# Altium footprint library 高通MSM8916 原理图+PCB Layout_QRD8916_2-4-2_half type_main board_V1.01.PcbLib: 113 footprints (part 7 of 8)
Each footprint in its own frame and in the unit in brackets; x right, y up, seen from the top. Pads: shape width x height; smd on the part's side, far side on the other; paste and mask are expansions set on the pad; w line width, h text height; cw(c..) or ccw(c..) is an arc to the next point about the centre after c.
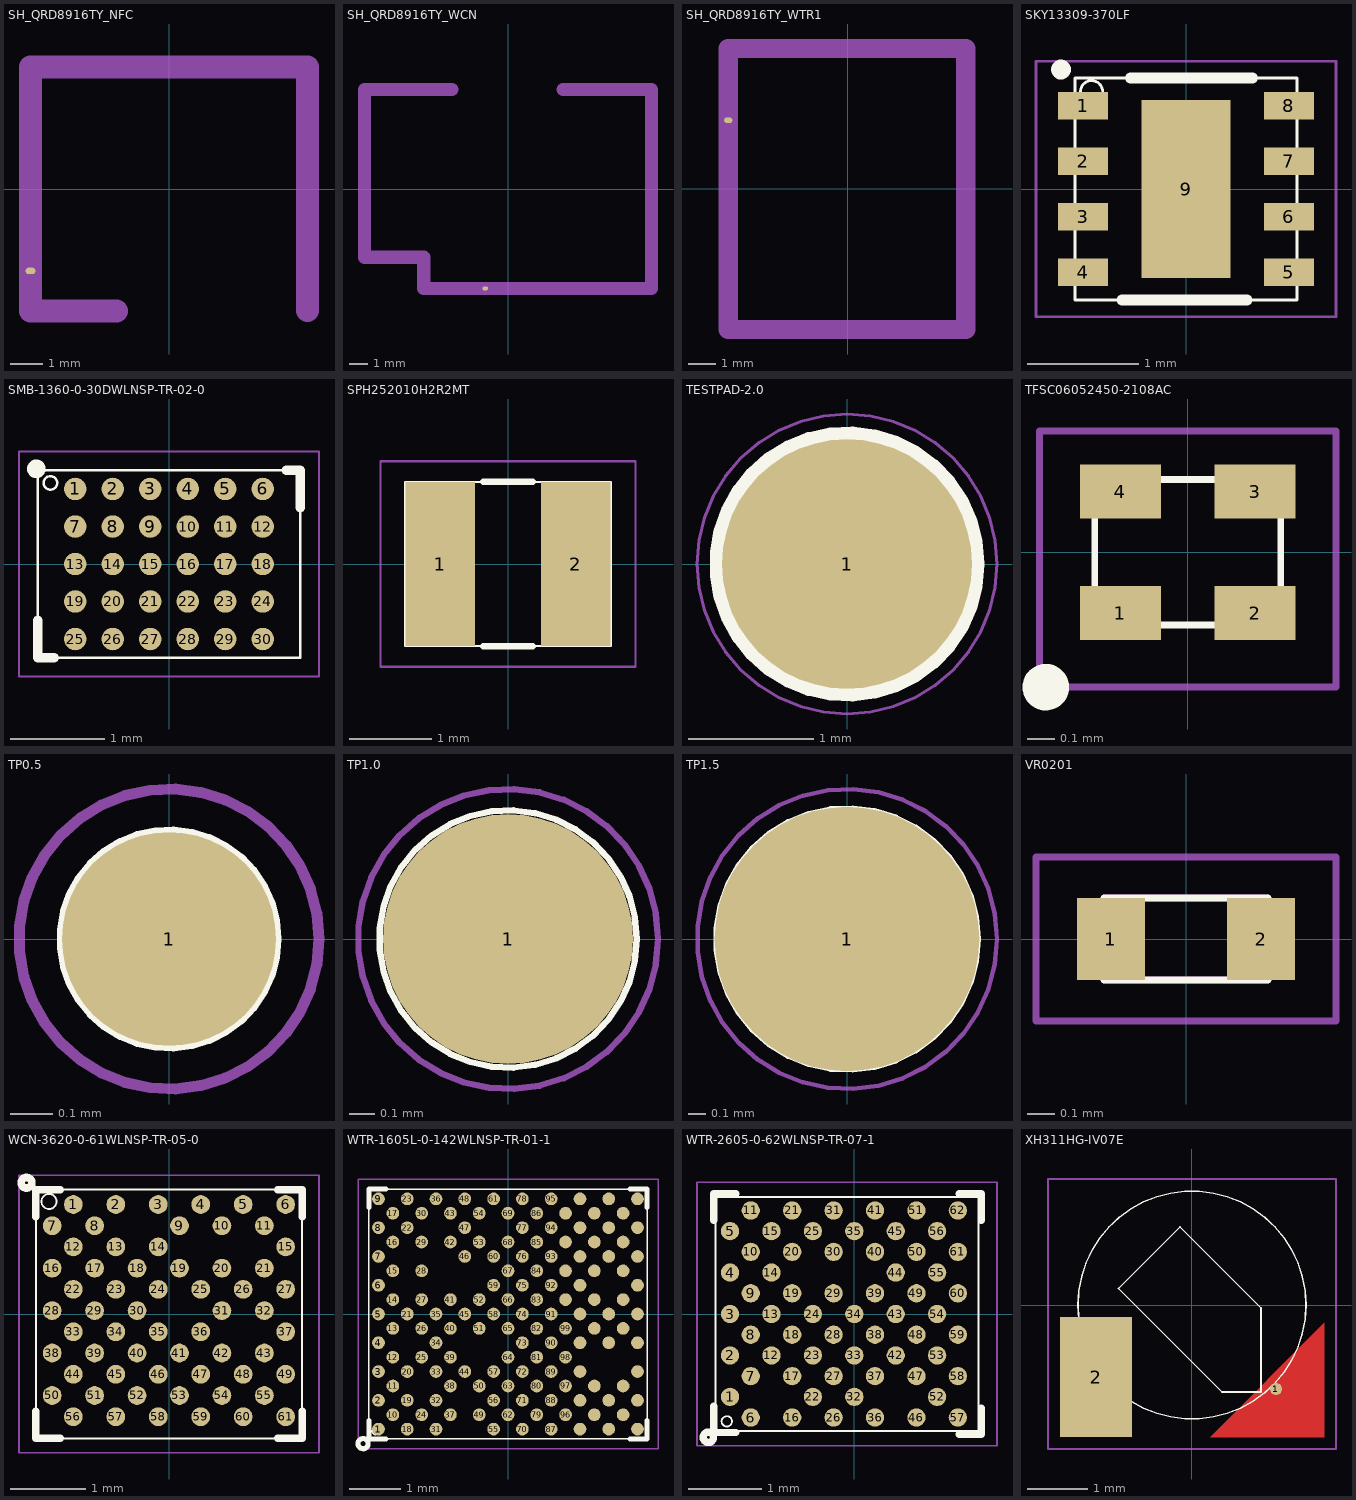
[diagram p6: the footprints below, top view; thin cyan lines are the x and y axes]

## SH_QRD8916TY_NFC [mm]
pads (1):
  oval 0.3x0.2 smd: 1(-4.225,-2.5)
Top Paste:
  region: 3.875,1.75 3.875,3.25 4.575,3.25 4.575,1.75
  region: 3.875,-3.25 3.875,-0.25 4.575,-0.25 4.575,-3.25
  region: -4.575,-3.25 -4.575,-1.75 -3.875,-1.75 -3.875,-3.25
  region: -4.575,0.25 -4.575,3.25 -3.875,3.25 -3.875,0.25
  region: 0.85,4.075 3.15,4.075 3.15,3.375 0.85,3.375
  region: -3.15,4.075 -0.85,4.075 -0.85,3.375 -3.15,3.375
  region: -4.225,-3.375 -1.4,-3.375 -1.4,-4.075 -4.225,-4.075
Top Solder:
  region: 3.875,1.75 3.875,3.25 4.575,3.25 4.575,1.75
  region: 3.875,-3.25 3.875,-0.25 4.575,-0.25 4.575,-3.25
  region: -4.575,0.25 -4.575,3.25 -3.875,3.25 -3.875,0.25
  region: -4.575,-3.25 -4.575,-1.75 -3.875,-1.75 -3.875,-3.25
  region: 0.85,4.075 3.15,4.075 3.15,3.375 0.85,3.375
  region: -3.15,4.075 -0.85,4.075 -0.85,3.375 -3.15,3.375
  region: -4.225,-3.375 -1.4,-3.375 -1.4,-4.075 -4.225,-4.075
Top Assembly:
  lines w0.7: -1.6,-3.725 -4.225,-3.725 -4.225,3.725 4.225,3.725 4.225,-3.7

## SH_QRD8916TY_WCN [mm]
pads (1):
  oval 0.3x0.2 smd: 1(-1.2,-5.265)
Top Paste:
  region: 7.238,1 7.238,4 7.938,4 7.938,1
  region: 7.238,-4 7.238,-1 7.938,-1 7.938,-4
  region: -7.938,1.7 -7.938,4.7 -7.238,4.7 -7.238,1.7
  region: -7.938,-3.3 -7.938,-0.3 -7.238,-0.3 -7.238,-3.3
  region: -2.5,-4.915 0.5,-4.915 0.5,-5.615 -2.5,-5.615
  region: 2.5,-4.915 5.5,-4.915 5.5,-5.615 2.5,-5.615
  region: 3.5,5.615 6.5,5.615 6.5,4.915 3.5,4.915
  region: -6.6,5.615 -3.6,5.615 -3.6,4.915 -6.6,4.915
Top Solder:
  region: 7.238,-4 7.238,-1 7.938,-1 7.938,-4
  region: 7.238,1 7.238,4 7.938,4 7.938,1
  region: -7.938,-3.3 -7.938,-0.3 -7.238,-0.3 -7.238,-3.3
  region: -7.938,1.7 -7.938,4.7 -7.238,4.7 -7.238,1.7
  region: 2.5,-4.915 5.5,-4.915 5.5,-5.615 2.5,-5.615
  region: -2.5,-4.915 0.5,-4.915 0.5,-5.615 -2.5,-5.615
  region: 3.5,5.615 6.5,5.615 6.5,4.915 3.5,4.915
  region: -6.6,5.615 -3.6,5.615 -3.6,4.915 -6.6,4.915
Top Assembly:
  lines w0.7: -2.963,5.265 -7.588,5.265 -7.588,-3.615 -4.463,-3.615 -4.463,-5.265 7.588,-5.265 7.588,5.265 2.927,5.265

## SH_QRD8916TY_WTR1 [mm]
pads (1):
  oval 0.3x0.2 smd: 1(-4.35,2.5)
Top Paste:
  region: -4.025,5.46 -1.025,5.46 -1.025,4.76 -4.025,4.76
  region: 0.975,5.46 3.975,5.46 3.975,4.76 0.975,4.76
  region: -1,-5.465 -4,-5.465 -4,-4.765 -1,-4.765
  region: 4,-5.465 1,-5.465 1,-4.765 4,-4.765
  region: -4.7,-4 -4.7,-1 -4,-1 -4,-4
  region: -4.7,1 -4.7,4 -4,4 -4,1
  region: 3.95,-4 3.95,-1 4.65,-1 4.65,-4
  region: 3.95,1 3.95,4 4.65,4 4.65,1
Top Solder:
  region: 0.975,5.46 3.975,5.46 3.975,4.76 0.975,4.76
  region: -4.025,5.46 -1.025,5.46 -1.025,4.76 -4.025,4.76
  region: -1,-5.465 -4,-5.465 -4,-4.765 -1,-4.765
  region: 4,-5.465 1,-5.465 1,-4.765 4,-4.765
  region: -4.7,-4 -4.7,-1 -4,-1 -4,-4
  region: -4.7,1 -4.7,4 -4,4 -4,1
  region: 3.95,-4 3.95,-1 4.65,-1 4.65,-4
  region: 3.95,1 3.95,4 4.65,4 4.65,1
Top Assembly:
  lines w0.7: -4.35,-5.115 -4.35,5.11 4.3,5.11 4.3,-5.115 -4.3,-5.115

## SKY13309-370LF [mm]
height 0.6
pads (9):
  rect 0.45x0.25 smd mask+0.05: 1(-0.925,0.75) 2(-0.925,0.25) 3(-0.925,-0.25) 4(-0.925,-0.75) 5(0.925,-0.75) 6(0.925,-0.25) 7(0.925,0.25) 8(0.925,0.75)
  rect 0.8x1.6 smd mask+0.05: 9(0,0)
Top Overlay:
  circle w0.127: c-1.125,1.075 r0.025
  circle w0.025: c-0.85,0.875 r0.1
  lines w0.025: -1,-1 -1,1 1,1 1,-1 -1,-1
  lines w0.1: -0.575,-1 0.55,-1 ; -0.5,1 0.6,1
Top Paste:
  region: -0.4,-0.2 0.4,-0.2 0.4,-0.7 -0.4,-0.7
  region: -0.4,0.7 0.4,0.7 0.4,0.2 -0.4,0.2
Top Assembly:
  lines w0.025: -1.35,-1.15 -1.35,1.15 1.35,1.15 1.35,-1.15 -1.35,-1.15

## SMB-1360-0-30DWLNSP-TR-02-0 [mm]
height 0.55
pads (30):
  round 0.24 smd paste+0.005 mask+0.038: 1(-1,0.8) 2(-0.6,0.8) 3(-0.2,0.8) 4(0.2,0.8) 5(0.6,0.8) 6(1,0.8) 7(-1,0.4) 8(-0.6,0.4) 9(-0.2,0.4) 10(0.2,0.4) 11(0.6,0.4) 12(1,0.4) 13(-1,0) 14(-0.6,0) 15(-0.2,0) 16(0.2,0) 17(0.6,0) 18(1,0) 19(-1,-0.4) 20(-0.6,-0.4) 21(-0.2,-0.4) 22(0.2,-0.4) 23(0.6,-0.4) 24(1,-0.4) 25(-1,-0.8) 26(-0.6,-0.8) 27(-0.2,-0.8) 28(0.2,-0.8) 29(0.6,-0.8) 30(1,-0.8)
Top Overlay:
  circle w0.1: c-1.415,1.015 r0.05
  circle w0.025: c-1.265,0.865 r0.072
  lines w0.025: -1.4,-1 1.4,-1 1.4,1 -1.4,1 -1.4,-1
  lines w0.1: -1.4,-0.6 -1.4,-1 -1.225,-1 ; 1.25,1 1.4,1 1.4,0.6
Top Assembly:
  lines w0.025: -1.6,-1.2 1.6,-1.2 1.6,1.2 -1.6,1.2 -1.6,-1.2

## SPH252010H2R2MT [mm]
height 1
pads (2):
  rect 0.85x2 smd paste-0.05 mask+0.05: 1(-0.825,0) 2(0.825,0)
Top Overlay:
  lines w0.025: -1.25,-1 1.25,-1 1.25,1 -1.25,1 -1.25,-1
  lines w0.08: -0.3,-1 0.3,-1 ; -0.3,1 0.3,1
Top Assembly:
  lines w0.025: -1.55,-1.25 1.55,-1.25 1.55,1.25 -1.55,1.25 -1.55,-1.25

## TESTPAD-2.0 [mm]
height 0.1
pads (1):
  round 2 smd mask+0.05: 1(0,0)
Top Overlay:
  circle w0.025: c0,0 r1
  circle w0.102: c0,0 r1.05
Top Assembly:
  circle w0.025: c0,0 r1.2

## TFSC06052450-2108AC [mm]
height 0.3
pads (4):
  rect 0.3x0.2 smd mask+0.05: 1(-0.25,-0.225) 2(0.25,-0.225) 3(0.25,0.225) 4(-0.25,0.225)
Top Overlay:
  circle w0.025: c-0.275,-0.2 r0.035
  circle w0.1: c-0.526,-0.5 r0.036
  lines w0.025: -0.345,-0.27 0.345,-0.27 0.345,0.27 -0.345,0.27 -0.345,-0.27
Top Assembly:
  lines w0.025: -0.55,-0.5 0.55,-0.5 0.55,0.45 -0.55,0.45 -0.55,-0.5

## TP0.5 [mm]
height 0.05
pads (1):
  round 0.5 smd mask+0.05: 1(0,0)
Top Overlay:
  circle w0.025: c0,0 r0.25
Top Assembly:
  circle w0.025: c0,0 r0.35

## TP1.0 [mm]
height 0.05
pads (1):
  round 1 smd mask+0.05: 1(0,0)
Top Overlay:
  circle w0.025: c0,0 r0.515
Top Assembly:
  circle w0.025: c0,0 r0.6

## TP1.5 [mm]
height 0.05
pads (1):
  round 1.5 smd mask+0.05: 1(0,0)
Top Overlay:
  circle w0.025: c0,0 r0.746
Top Assembly:
  circle w0.025: c0,0 r0.85

## VR0201 [mm]
height 0.4
pads (2):
  rect 0.25x0.3 smd mask+0.05: 1(-0.275,0) 2(0.275,0)
Top Overlay:
  lines w0.025: -0.3,-0.15 0.3,-0.15 0.3,0.15 -0.3,0.15 -0.3,-0.15
Top Assembly:
  lines w0.025: -0.55,-0.3 0.55,-0.3 0.55,0.3 -0.55,0.3 -0.55,-0.3
Mechanical 9:
  lines w0.025: -0.3,-0.15 0.3,-0.15 0.3,0.15 -0.3,0.15 -0.3,-0.15

## WCN-3620-0-61WLNSP-TR-05-0 [mm]
height 0.63
pads (61):
  round 0.25 smd mask+0.035: 1(-1.275,1.46) 2(-0.709,1.46) 3(-0.143,1.46) 4(0.423,1.46) 5(0.989,1.46) 6(1.555,1.46) 7(-1.558,1.178) 8(-0.992,1.178) 9(0.14,1.178) 10(0.706,1.178) 11(1.272,1.178) 12(-1.275,0.894) 13(-0.709,0.894) 14(-0.143,0.894) 15(1.555,0.894) 16(-1.558,0.611) 17(-0.992,0.611) 18(-0.426,0.611) 19(0.14,0.611) 20(0.706,0.611) 21(1.272,0.611) 22(-1.275,0.329) 23(-0.709,0.329) 24(-0.143,0.329) 25(0.423,0.329) 26(0.989,0.329) 27(1.555,0.329) 28(-1.558,0.045) 29(-0.992,0.045) 30(-0.426,0.045) 31(0.706,0.045) 32(1.272,0.045) 33(-1.275,-0.238) 34(-0.709,-0.238) 35(-0.143,-0.238) 36(0.423,-0.238) 37(1.555,-0.238) 38(-1.558,-0.52) 39(-0.992,-0.52) 40(-0.426,-0.52) 41(0.14,-0.52) 42(0.706,-0.52) 43(1.272,-0.52) 44(-1.275,-0.804) 45(-0.709,-0.804) 46(-0.143,-0.804) 47(0.423,-0.804) 48(0.989,-0.804) 49(1.555,-0.804) 50(-1.558,-1.087) 51(-0.992,-1.087) 52(-0.426,-1.087) 53(0.14,-1.087) 54(0.706,-1.087) 55(1.272,-1.087) 56(-1.275,-1.369) 57(-0.709,-1.369) 58(-0.143,-1.369) 59(0.423,-1.369) 60(0.989,-1.369) 61(1.555,-1.369)
Top Overlay:
  circle w0.025: c-1.6,1.5 r0.1
  circle w0.1: c-1.9,1.75 r0.071
  lines w0.025: -1.775,-1.66 1.775,-1.66 1.775,1.66 -1.775,1.66 -1.775,-1.66
  lines w0.1: -1.775,-1.3 -1.775,-1.66 -1.45,-1.66 ; -1.775,1.3 -1.775,1.66 -1.45,1.66 ; 1.45,-1.66 1.775,-1.66 1.775,-1.3 ; 1.45,1.66 1.775,1.66 1.775,1.3
Top Assembly:
  lines w0.025: -2,-1.85 2,-1.85 2,1.85 -2,1.85 -2,-1.85

## WTR-1605L-0-142WLNSP-TR-01-1 [mm]
height 0.63
pads (142):
  round 0.25 smd mask+0.035: 1(-2.547,-2.264) 2(-2.547,-1.698) 3(-2.547,-1.132) 4(-2.547,-0.566) 5(-2.547,0) 6(-2.547,0.566) 7(-2.547,1.132) 8(-2.547,1.698) 9(-2.547,2.264) 10(-2.264,-1.981) 11(-2.264,-1.415) 12(-2.264,-0.849) 13(-2.264,-0.283) 14(-2.264,0.283) 15(-2.264,0.849) 16(-2.264,1.415) 17(-2.264,1.981) 18(-1.981,-2.264) 19(-1.981,-1.698) 20(-1.981,-1.132) 21(-1.981,0) 22(-1.981,1.698) 23(-1.981,2.264) 24(-1.698,-1.981) 25(-1.698,-0.849) 26(-1.698,-0.283) 27(-1.698,0.283) 28(-1.698,0.849) 29(-1.698,1.415) 30(-1.698,1.981) 31(-1.415,-2.264) 32(-1.415,-1.698) 33(-1.415,-1.132) 34(-1.415,-0.566) 35(-1.415,0) 36(-1.415,2.264) 37(-1.132,-1.981) 38(-1.132,-1.415) 39(-1.132,-0.849) 40(-1.132,-0.283) 41(-1.132,0.283) 42(-1.132,1.415) 43(-1.132,1.981) 44(-0.849,-1.132) 45(-0.849,0) 46(-0.849,1.132) 47(-0.849,1.698) 48(-0.849,2.264) 49(-0.566,-1.981) 50(-0.566,-1.415) 51(-0.566,-0.283) 52(-0.566,0.283) 53(-0.566,1.415) 54(-0.566,1.981) 55(-0.283,-2.264) 56(-0.283,-1.698) 57(-0.283,-1.132) 58(-0.283,0) 59(-0.283,0.566) 60(-0.283,1.132) 61(-0.283,2.264) 62(0,-1.981) 63(0,-1.415) 64(0,-0.849) 65(0,-0.283) 66(0,0.283) 67(0,0.849) 68(0,1.415) 69(0,1.981) 70(0.283,-2.264) 71(0.283,-1.698) 72(0.283,-1.132) 73(0.283,-0.566) 74(0.283,0) 75(0.283,0.566) 76(0.283,1.132) 77(0.283,1.698) 78(0.283,2.264) 79(0.566,-1.981) 80(0.566,-1.415) 81(0.566,-0.849) 82(0.566,-0.283) 83(0.566,0.283) 84(0.566,0.849) 85(0.566,1.415) 86(0.566,1.981) 87(0.849,-2.264) 88(0.849,-1.698) 89(0.849,-1.132) 90(0.849,-0.566) 91(0.849,0) 92(0.849,0.566) 93(0.849,1.132) 94(0.849,1.698) 95(0.849,2.264) 96(1.132,-1.981) 97(1.132,-1.415) 98(1.132,-0.849) 99(1.132,-0.283) 100(1.132,0.283) 101(1.132,0.849) 102(1.132,1.415) 103(1.132,1.981) 104(1.415,-2.264) 105(1.415,-1.698) 106(1.415,-1.132) 107(1.415,-0.566) 108(1.415,0) 109(1.415,0.566) 110(1.415,1.132) 111(1.415,1.698) 112(1.415,2.264) 113(1.698,-1.981) 114(1.698,-1.415) 115(1.698,-0.283) 116(1.698,0.283) 117(1.698,0.849) 118(1.698,1.415) 119(1.698,1.981) 120(1.981,-2.264) 121(1.981,-1.698) 122(1.981,-0.566) 123(1.981,0) 124(1.981,1.132) 125(1.981,1.698) 126(1.981,2.264) 127(2.264,-1.981) 128(2.264,-1.415) 129(2.264,-0.283) 130(2.264,0.283) 131(2.264,0.849) 132(2.264,1.415) 133(2.264,1.981) 134(2.547,-2.264) 135(2.547,-1.698) 136(2.547,-1.132) 137(2.547,-0.566) 138(2.547,0) 139(2.547,0.566) 140(2.547,1.132) 141(2.547,1.698) 142(2.547,2.264)
Top Overlay:
  circle w0.1: c-2.85,-2.55 r0.1
  circle w0.025: c-2.6,-2.3 r0.071
  lines w0.025: -2.735,-2.455 -2.735,2.455 2.735,2.455 2.735,-2.455 -2.735,-2.455
  lines w0.1: -2.735,-2.1 -2.735,-2.455 -2.4,-2.455 ; -2.735,2.1 -2.735,2.455 -2.4,2.455 ; 2.4,-2.455 2.735,-2.455 2.735,-2.1 ; 2.4,2.455 2.735,2.455 2.735,2.1
Top Assembly:
  lines w0.025: -2.95,-2.65 -2.95,2.65 2.95,2.65 2.95,-2.65 -2.95,-2.65

## WTR-2605-0-62WLNSP-TR-07-1 [mm]
height 0.65
pads (62):
  round 0.25 smd mask+0.035: 1(-1.698,-1.132) 2(-1.698,-0.566) 3(-1.698,0) 4(-1.698,0.566) 5(-1.698,1.132) 6(-1.415,-1.415) 7(-1.415,-0.849) 8(-1.415,-0.283) 9(-1.415,0.283) 10(-1.415,0.849) 11(-1.415,1.415) 12(-1.132,-0.566) 13(-1.132,0) 14(-1.132,0.566) 15(-1.132,1.132) 16(-0.849,-1.415) 17(-0.849,-0.849) 18(-0.849,-0.283) 19(-0.849,0.283) 20(-0.849,0.849) 21(-0.849,1.415) 22(-0.566,-1.132) 23(-0.566,-0.566) 24(-0.566,0) 25(-0.566,1.132) 26(-0.283,-1.415) 27(-0.283,-0.849) 28(-0.283,-0.283) 29(-0.283,0.283) 30(-0.283,0.849) 31(-0.283,1.415) 32(0,-1.132) 33(0,-0.566) 34(0,0) 35(0,1.132) 36(0.283,-1.415) 37(0.283,-0.849) 38(0.283,-0.283) 39(0.283,0.283) 40(0.283,0.849) 41(0.283,1.415) 42(0.566,-0.566) 43(0.566,0) 44(0.566,0.566) 45(0.566,1.132) 46(0.849,-1.415) 47(0.849,-0.849) 48(0.849,-0.283) 49(0.849,0.283) 50(0.849,0.849) 51(0.849,1.415) 52(1.132,-1.132) 53(1.132,-0.566) 54(1.132,0) 55(1.132,0.566) 56(1.132,1.132) 57(1.415,-1.415) 58(1.415,-0.849) 59(1.415,-0.283) 60(1.415,0.283) 61(1.415,0.849) 62(1.415,1.415)
Top Overlay:
  circle w0.1: c-1.994,-1.685 r0.071
  circle w0.025: c-1.743,-1.467 r0.071
  lines w0.025: -1.895,-1.6 -1.895,1.6 1.699,1.6 1.699,-1.6 -1.895,-1.6
  lines w0.1: -1.922,-1.26 -1.922,-1.62 -1.619,-1.62 ; -1.92,1.283 -1.92,1.643 -1.617,1.643 ; 1.431,-1.645 1.733,-1.645 1.733,-1.285 ; 1.432,1.643 1.735,1.643 1.735,1.283
Top Assembly:
  lines w0.025: -2.15,-1.8 -2.15,1.8 1.95,1.8 1.95,-1.8 -2.15,-1.8

## XH311HG-IV07E [mm]
height 1.5
pads (2):
  round 0.2 smd: 1(1.4,-1.4)
  rect 1.2x2 smd paste-0.1 mask+0.05: 2(-1.6,-1.2)
Top Layer:
  region: 0.305,-2.2 2.205,-2.2 2.205,-0.3
Top Overlay:
  circle w0.025: c0,0 r1.9
  lines w0.025: -1.225,0.275 -0.2,1.3 1.15,-0.05 1.15,-1.45 0.5,-1.45 -1.225,0.275
Top Paste:
  region: 0.4,-2.15 2.155,-2.15 2.15,-0.4
Top Solder:
  region: 0.255,-2.25 2.255,-2.25 2.255,-0.25 2.18,-0.25 0.255,-2.179
  lines w0.15: -1.85,0.402 cw(c0.002,0.015) 1.8,0.599
Top Assembly:
  lines w0.025: -2.4,-2.4 2.4,-2.4 2.4,2.1 -2.4,2.1 -2.4,-2.4